# Altium footprint library react4.PcbLib: 30 footprints (part 2 of 2)
Each footprint in its own frame and in the unit in brackets; x right, y up, seen from the top. Pads: shape width x height; smd on the part's side, far side on the other; paste and mask are expansions set on the pad; w line width, h text height; cw(c..) or ccw(c..) is an arc to the next point about the centre after c.
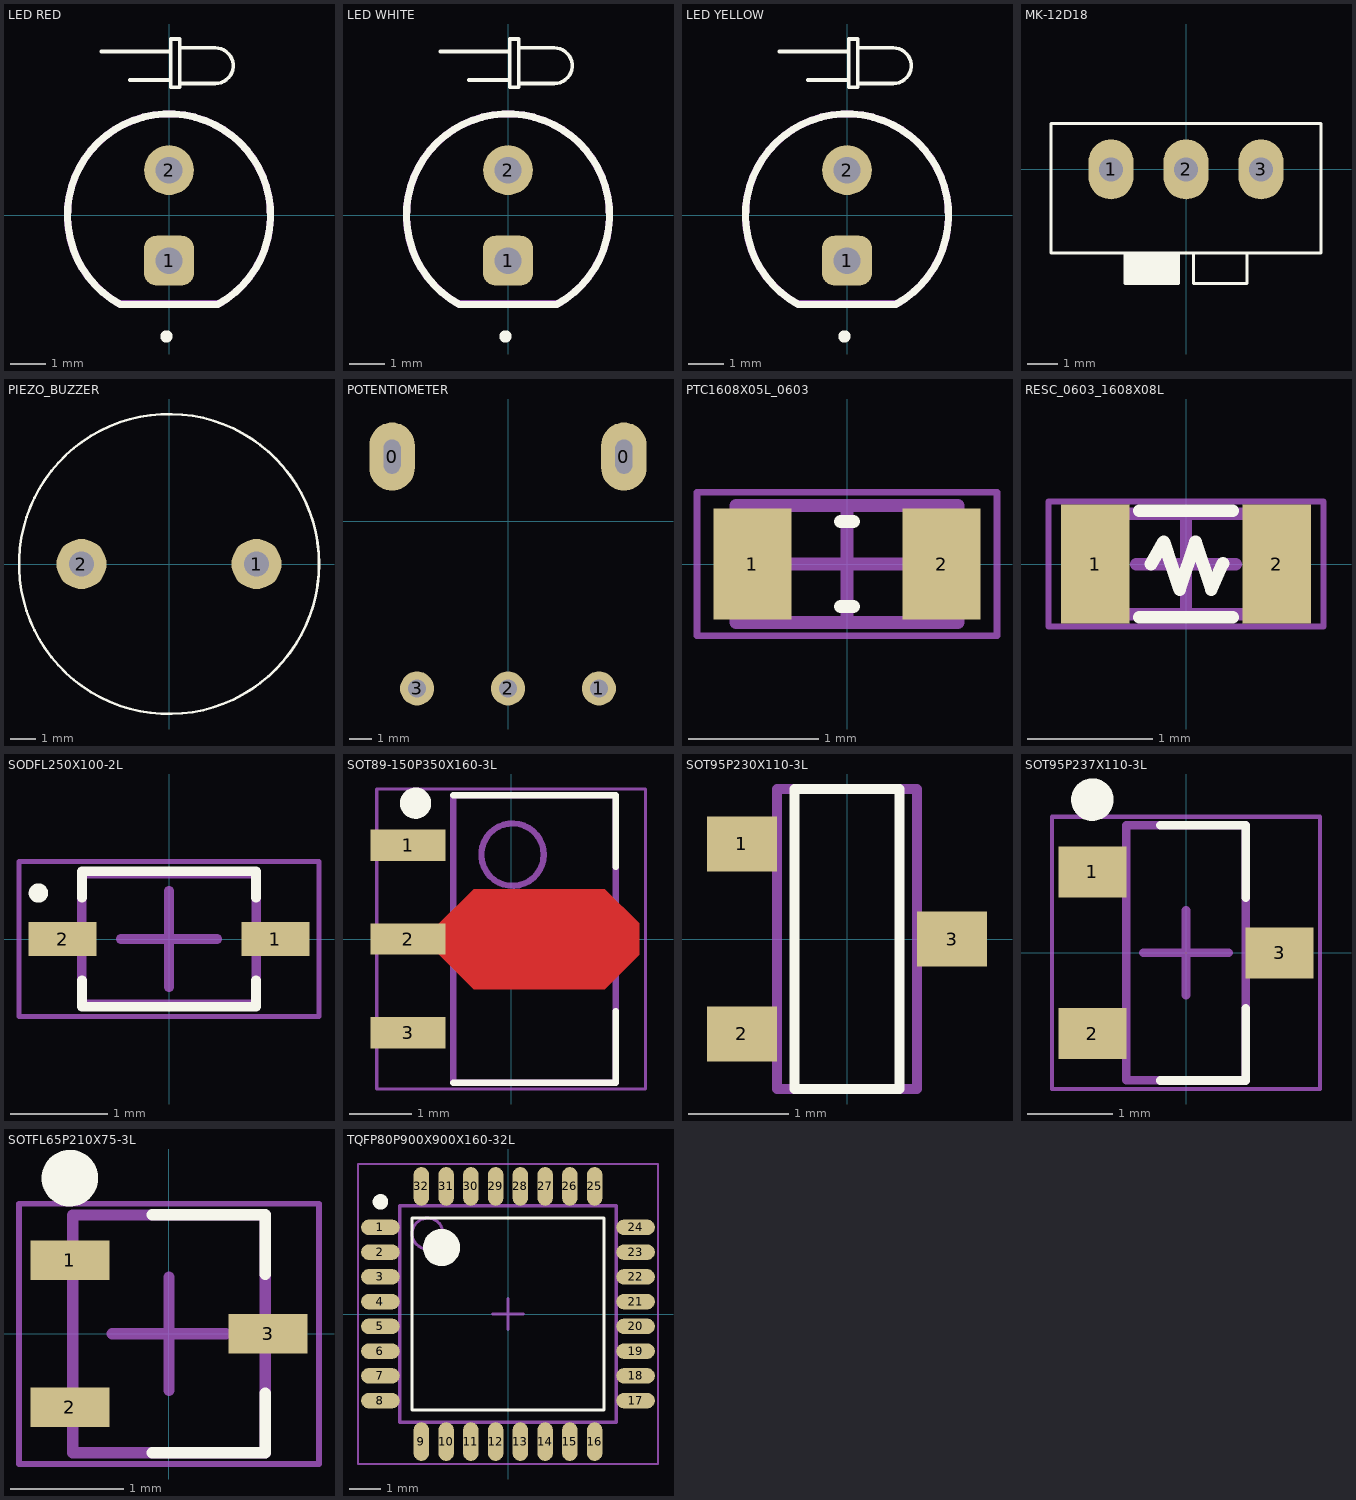
[diagram p1: the footprints below, top view; thin cyan lines are the x and y axes]

## LED RED [mm] "5MM through hole LED"
pads (2):
  rrect50% 1.4x1.4 hole 0.75: 1(0,-1.27)
  round 1.4 hole 0.75: 2(0,1.27)
Top Overlay:
  circle w0.2: c-0.071,-3.397 r0.072
  lines w0.102: -1.9,4.6 0.05,4.6 ; -1.1,3.8 0.05,3.8 ; 0.3,3.7 1.3,3.7 ccw(c1.3,4.2) 1.3,4.7 0.3,4.7 ; 0.05,3.6 0.05,4.95 0.3,4.95 0.3,3.6 0.05,3.6
  lines w0.2: -1.378,-2.495 cw(c0,0) 1.377,-2.495
  lines w0.203: -1.361,-2.5 1.358,-2.5
Top Assembly:
  lines w0.2: -1.406,-2.479 cw(c0,0) 1.396,-2.485
  lines w0.203: -1.406,-2.479 1.396,-2.479
3D body "led_green.step": height 8.5, standoff -4, extent -2.799,-2.55 2.799,2.8

## LED WHITE [mm] "5MM through hole LED"
pads (2):
  rrect50% 1.4x1.4 hole 0.75: 1(0,-1.27)
  round 1.4 hole 0.75: 2(0,1.27)
Top Overlay:
  circle w0.2: c-0.071,-3.397 r0.072
  lines w0.102: -1.9,4.6 0.05,4.6 ; -1.1,3.8 0.05,3.8 ; 0.3,3.7 1.3,3.7 ccw(c1.3,4.2) 1.3,4.7 0.3,4.7 ; 0.05,3.6 0.05,4.95 0.3,4.95 0.3,3.6 0.05,3.6
  lines w0.2: -1.378,-2.495 cw(c0,0) 1.377,-2.495
  lines w0.203: -1.361,-2.5 1.358,-2.5
Top Assembly:
  lines w0.2: -1.406,-2.479 cw(c0,0) 1.396,-2.485
  lines w0.203: -1.406,-2.479 1.396,-2.479
3D body "led_green.step": height 8.5, standoff -4, extent -2.799,-2.55 2.799,2.8

## LED YELLOW [mm] "5MM through hole LED"
pads (2):
  rrect50% 1.4x1.4 hole 0.75: 1(0,-1.27)
  round 1.4 hole 0.75: 2(0,1.27)
Top Overlay:
  circle w0.2: c-0.071,-3.397 r0.072
  lines w0.102: -1.9,4.6 0.05,4.6 ; -1.1,3.8 0.05,3.8 ; 0.3,3.7 1.3,3.7 ccw(c1.3,4.2) 1.3,4.7 0.3,4.7 ; 0.05,3.6 0.05,4.95 0.3,4.95 0.3,3.6 0.05,3.6
  lines w0.2: -1.378,-2.495 cw(c0,0) 1.377,-2.495
  lines w0.203: -1.361,-2.5 1.358,-2.5
Top Assembly:
  lines w0.2: -1.406,-2.479 cw(c0,0) 1.396,-2.485
  lines w0.203: -1.406,-2.479 1.396,-2.479
3D body "led_green.step": height 8.5, standoff -4, extent -2.799,-2.55 2.799,2.8

## MK-12D18 [mm] "SPDT Side mount through hole power 0.5A switch"
pads (3):
  rrect100% 1.5x2 hole 0.8: 1(-2.5,0) 2(0,0) 3(2.5,0)
Top Overlay:
  rectangle: -2.032,-3.81 -0.254,-2.794
  lines w0.102: -2.032,-2.794 -2.032,-3.81 -0.254,-3.81 -0.254,-2.794 ; 0.254,-2.794 0.254,-3.81 2.032,-3.81 2.032,-2.794 ; -4.5,-2.794 4.5,-2.794 4.5,1.524 -4.5,1.524 -4.5,-2.794
3D body "MK-12D18.step": height 3.5, standoff -3.8, extent -4.5,-6.55 4.5,0.65

## PIEZO_BUZZER [mm] "Piezo buzzer"
height 9.5
pads (2):
  round 2 hole 1: 1(3.5,0) 2(-3.5,0)
Top Overlay:
  circle w0.102: c0,0 r6
3D body "buzzer.step": height 10, standoff -4, extent -6,-6 6,6

## POTENTIOMETER [mm] "B103 thumbwheel pot 16x2"
pads (5):
  oval 2x3 hole 1.5 slot 0.75 at 0 deg: 0(-5.1,2.85) 0(5.1,2.85)
  round 1.5 hole 0.8: 1(4,-7.35) 2(0,-7.35) 3(-4,-7.35)
3D body "B103 volume potentiometer.step": height 3.2, standoff -2.65, extent -7.973,-7.973 7.974,7.974

## PTC1608X05L_0603 [mm] "PTC, 2-Leads, Body 1.60x0.80mm, IPC High Density"
height 0.5
pads (2):
  rrect1% 0.6x0.85 smd: 1(-0.725,0) 2(0.725,0)
Top Overlay:
  lines w0.102: -0.05,-0.325 0.05,-0.325 ; -0.05,0.325 0.05,0.325
Top Courtyard:
  lines w0.05: -1.15,-0.55 -1.15,0.55 1.15,0.55 1.15,-0.55 -1.15,-0.55
  lines w0.1: -0.45,0 0.45,0 ; 0,-0.45 0,0.45
Top Assembly:
  lines w0.1: -0.85,-0.45 -0.85,0.45 0.85,0.45 0.85,-0.45 -0.85,-0.45
3D body "PTC1608X05L_0603.step": height 0.5, standoff 0, extent -0.85,-0.45 0.85,0.45

## RESC_0603_1608X08L [mm] "Chip Resistor, 2-Leads, Body 1.60x0.80mm, IPC High Density"
height 0.8
pads (2):
  rrect1% 0.55x0.95 smd: 1(-0.725,0) 2(0.725,0)
Top Overlay:
  lines w0.102: -0.375,-0.425 0.375,-0.425 ; -0.375,0.425 0.375,0.425 ; -0.279,0 -0.178,0.178 -0.051,-0.203 0.076,0.178 0.203,-0.203 0.295,0.004
Top Courtyard:
  lines w0.051: -1.1,-0.5 1.1,-0.5 1.1,0.5 -1.1,0.5 -1.1,-0.5
  lines w0.1: -0.4,0 0.4,0 ; 0,-0.4 0,0.4
Top Assembly:
  lines w0.1: -0.8,-0.4 -0.8,0.4 0.8,0.4 0.8,-0.4 -0.8,-0.4
3D body "RESC_0603_1608X08L.step": height 0.8, standoff 0, extent -0.8,-0.4 0.8,0.4

## SODFL250X100-2L [mm] "SODFL, 2-Leads, Body 1.25x2.50mm, IPC High Density"
height 1
pads (2):
  rrect1% 0.7x0.35 smd: 1(1.1,0) 2(-1.1,0)
Top Overlay:
  circle w0.1: c-1.35,0.475 r0.05
  lines w0.102: -0.9,-0.426 -0.9,-0.7 0.9,-0.7 0.9,-0.426 ; -0.9,0.426 -0.9,0.7 0.9,0.7 0.9,0.426
Mechanical 13:
  lines w0.1: -0.9,-0.675 -0.9,0.675 0.9,0.675 0.9,-0.675 -0.9,-0.675
Mechanical 15:
  lines w0.05: -1.55,-0.8 -1.55,0.8 1.55,0.8 1.55,-0.8 -1.55,-0.8
  lines w0.1: -0.5,0 0.5,0 ; 0,-0.5 0,0.5
3D body "SODFL250X100-2L.step": height 1, standoff 0, extent -1.25,-0.675 1.25,0.675

## SOT89-150P350X160-3L [mm] "SOT89, 3-Leads, Body 4.50x2.45mm, Pitch 1.50mm, Lead Span 3.5mm, IPC High Density"
height 1.6
pads (3):
  rrect1% 1.2x0.5 smd: 1(-1.65,1.5) 2(-1.65,0) 3(-1.65,-1.5)
Top Layer:
  region: -1.156,0.244 -0.6,0.8 1.5,0.8 2.05,0.25 2.05,-0.25 1.5,-0.8 -0.6,-0.8 -1.156,-0.244
Top Overlay:
  circle w0.25: c-1.528,2.173 r0.125
  lines w0.102: -0.928,-2.3 1.672,-2.3 1.672,-1.151 ; -0.928,2.3 1.672,2.3 1.672,1.151
Top Courtyard:
  lines w0.05: -2.15,-2.4 2.15,-2.4 2.15,2.4 -2.15,2.4 -2.15,-2.4
  lines w0.1: -0.128,0 0.873,0 ; 0.372,-0.5 0.372,0.5
Top Assembly:
  circle w0.1: c0.022,1.35 r0.5
  lines w0.1: -0.928,-2.3 1.672,-2.3 1.672,2.3 -0.928,2.3 -0.928,-2.3
3D body "SOT89-150P350X160-3L.step": height 1.6, standoff 0, extent -2.2,-2.297 2,2.297

## SOT95P230X110-3L [mm] "SOT23, 3-Leads, Body 2.90x2.30mm, Pitch 0.95mm, IPC High Density"
height 1.1
pads (3):
  rrect1% 0.7x0.55 smd: 1(-1.05,0.95) 2(-1.05,-0.95) 3(1.05,0)
Top Overlay:
  lines w0.102: -0.525,-1.5 -0.525,1.5 0.525,1.5 0.525,-1.5 -0.525,-1.5
Top Assembly:
  lines w0.1: -0.7,-1.5 -0.7,1.5 0.7,1.5 0.7,-1.5 -0.7,-1.5
3D body "SOT95P230X110-3L.step": height 1.1, standoff 0, extent -1.3,-1.5 1.3,1.5

## SOT95P237X110-3L [mm] "SOT23, 3-Leads, Body 2.90x2.37mm, Pitch 0.95mm, IPC High Density"
height 1.1
pads (3):
  rrect1% 0.8x0.6 smd: 1(-1.1,0.95) 2(-1.1,-0.95) 3(1.1,0)
Top Overlay:
  circle w0.25: c-1.1,1.8 r0.125
  lines w0.102: -0.3,-1.5 0.7,-1.5 0.7,-0.651 ; -0.3,1.5 0.7,1.5 0.7,0.651
Top Courtyard:
  lines w0.05: -1.575,-1.6 1.575,-1.6 1.575,1.6 -1.575,1.6 -1.575,-1.6
  lines w0.1: -0.5,0 0.5,0 ; 0,-0.5 0,0.5
Top Assembly:
  lines w0.1: -0.7,-1.5 0.7,-1.5 0.7,1.5 -0.7,1.5 -0.7,-1.5
3D body "SOT95P237X110-3L.step": height 1.1, standoff 0, extent -1.32,-1.5 1.32,1.5

## SOTFL65P210X75-3L [mm] "SOTFL, 3-Leads, Body 2.00x2.10mm, Pitch 0.65mm, IPC High Density"
height 0.75
pads (3):
  rrect1% 0.7x0.35 smd: 1(-0.875,0.65) 2(-0.875,-0.65) 3(0.875,0)
Top Overlay:
  circle w0.25: c-0.875,1.375 r0.125
  lines w0.102: -0.15,-1.05 0.85,-1.05 0.85,-0.526 ; -0.15,1.05 0.85,1.05 0.85,0.526
Top Courtyard:
  lines w0.05: -1.325,-1.15 -1.325,1.15 1.325,1.15 1.325,-1.15 -1.325,-1.15
  lines w0.1: -0.5,0 0.5,0 ; 0,-0.5 0,0.5
Top Assembly:
  lines w0.1: -0.85,-1.05 -0.85,1.05 0.85,1.05 0.85,-1.05 -0.85,-1.05
3D body "SOTFL65P210X75-3L.step": height 0.75, standoff 0, extent -1.05,-1.048 1.05,1.048

## TQFP80P900X900X160-32L [mm] "TQFP, 32-Leads, Body 7.00x7.00mm, Pitch 0.80mm, IPC High Density"
height 1.6
pads (32):
  oval 1.25x0.5 smd mask+0.05: 1(-4.125,2.8) 2(-4.125,2) 3(-4.125,1.2) 4(-4.125,0.4) 5(-4.125,-0.4) 6(-4.125,-1.2) 7(-4.125,-2) 8(-4.125,-2.8) 17(4.125,-2.8) 18(4.125,-2) 19(4.125,-1.2) 20(4.125,-0.4) 21(4.125,0.4) 22(4.125,1.2) 23(4.125,2) 24(4.125,2.8)
  oval 0.5x1.25 smd mask+0.05: 9(-2.8,-4.125) 10(-2,-4.125) 11(-1.2,-4.125) 12(-0.4,-4.125) 13(0.4,-4.125) 14(1.2,-4.125) 15(2,-4.125) 16(2.8,-4.125) 25(2.8,4.125) 26(2,4.125) 27(1.2,4.125) 28(0.4,4.125) 29(-0.4,4.125) 30(-1.2,4.125) 31(-2,4.125) 32(-2.8,4.125)
Top Overlay:
  circle w0.6: c-2.149,2.149 r0.3
  circle w0.25: c-4.125,3.625 r0.125
  lines w0.102: -3.1,-3.1 3.1,-3.1 3.1,3.1 -3.1,3.1 -3.1,-3.1
Top Courtyard:
  lines w0.05: -4.85,-4.85 4.85,-4.85 4.85,4.85 -4.85,4.85 -4.85,-4.85
  lines w0.1: -0.5,0 0.5,0 ; 0,-0.5 0,0.5
Top Assembly:
  circle w0.1: c-2.6,2.6 r0.5
  lines w0.1: -3.5,-3.5 3.5,-3.5 3.5,3.5 -3.5,3.5 -3.5,-3.5
3D body "TQFP80P900X900X160-32L.step": height 1.6, standoff 0, extent -4.5,-4.5 4.5,4.5